# EAGLE library part ATSAMC21N18A-ANT (library graftel-internal-ic)
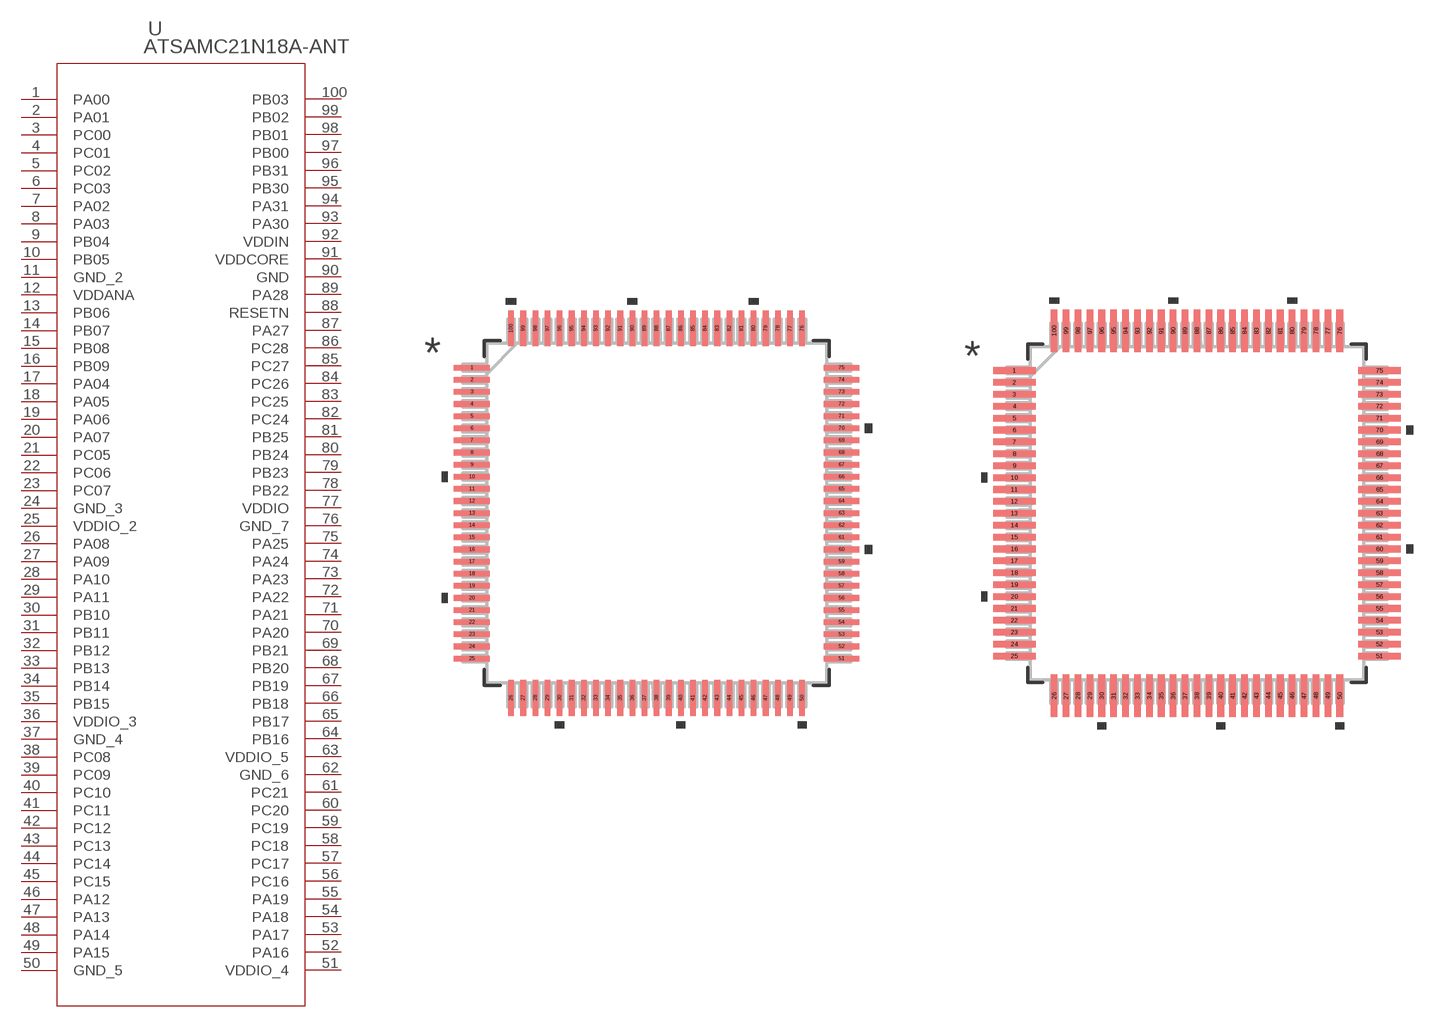
[diagram p69: symbol with the pads of TQFP100_14X14MC; footprints TQFP100_14X14MC, TQFP100_14X14MC-M]

Designator prefix U

## ATSAMC21N18A-ANT (MANUFACTURER_PART_NUMBER: ATSAMC21N18AANT; VENDOR: Microchip)  [TQFP100_14X14MC]
1  PA00
2  PA01
3  PC00
4  PC01
5  PC02
6  PC03
7  PA02
8  PA03
9  PB04
10  PB05
11  GND_2  pas
12  VDDANA  pwr
13  PB06
14  PB07
15  PB08
16  PB09
17  PA04
18  PA05
19  PA06
20  PA07
21  PC05
22  PC06
23  PC07
24  GND_3  pas
25  VDDIO_2  pwr
26  PA08
27  PA09
28  PA10
29  PA11
30  PB10
31  PB11
32  PB12
33  PB13
34  PB14
35  PB15
36  VDDIO_3  pwr
37  GND_4  pas
38  PC08
39  PC09
40  PC10
41  PC11
42  PC12
43  PC13
44  PC14
45  PC15
46  PA12
47  PA13
48  PA14
49  PA15
50  GND_5  pas
51  VDDIO_4  pwr
52  PA16
53  PA17
54  PA18
55  PA19
56  PC16
57  PC17
58  PC18
59  PC19
60  PC20
61  PC21
62  GND_6  pas
63  VDDIO_5  pwr
64  PB16
65  PB17
66  PB18
67  PB19
68  PB20
69  PB21
70  PA20
71  PA21
72  PA22
73  PA23
74  PA24
75  PA25
76  GND_7  pas
77  VDDIO  pwr
78  PB22
79  PB23
80  PB24
81  PB25
82  PC24
83  PC25
84  PC26
85  PC27
86  PC28
87  PA27
88  RESETN  pas
89  PA28
90  GND  pas
91  VDDCORE  pwr
92  VDDIN  pwr
93  PA30
94  PA31
95  PB30
96  PB31
97  PB00
98  PB01
99  PB02
100  PB03

## ATSAMC21N18A-ANTTQFP100_14X14MC-M (MANUFACTURER_PART_NUMBER: ATSAMC21N18AANT; VENDOR: Microchip)  [TQFP100_14X14MC-M]
Pads as for TQFP100_14X14MC

## ATSAMC21N18A-ANTTQFP100_14X14MC-L (MANUFACTURER_PART_NUMBER: ATSAMC21N18AANT; VENDOR: Microchip)  [TQFP100_14X14MC-L]
Pads as for TQFP100_14X14MC

## Footprint TQFP100_14X14MC (pad centres in mm)
smd 1.473 x 0.229: 1 -7.62,6; 2 -7.62,5.5; 3 -7.62,5; 4 -7.62,4.5; 5 -7.62,4; 6 -7.62,3.5; 7 -7.62,3; 8 -7.62,2.5; 9 -7.62,2; 10 -7.62,1.5; 11 -7.62,1; 12 -7.62,0.5; 13 -7.62,0; 14 -7.62,-0.5; 15 -7.62,-1; 16 -7.62,-1.5; 17 -7.62,-2; 18 -7.62,-2.5; 19 -7.62,-3; 20 -7.62,-3.5; 21 -7.62,-4; 22 -7.62,-4.5; 23 -7.62,-5; 24 -7.62,-5.5; 25 -7.62,-6; 51 7.62,-6; 52 7.62,-5.5; 53 7.62,-5; 54 7.62,-4.5; 55 7.62,-4; 56 7.62,-3.5; 57 7.62,-3; 58 7.62,-2.5; 59 7.62,-2; 60 7.62,-1.5; 61 7.62,-1; 62 7.62,-0.5; 63 7.62,0; 64 7.62,0.5; 65 7.62,1; 66 7.62,1.5; 67 7.62,2; 68 7.62,2.5; 69 7.62,3; 70 7.62,3.5; 71 7.62,4; 72 7.62,4.5; 73 7.62,5; 74 7.62,5.5; 75 7.62,6
smd 0.229 x 1.473: 26 -6,-7.62; 27 -5.5,-7.62; 28 -5,-7.62; 29 -4.5,-7.62; 30 -4,-7.62; 31 -3.5,-7.62; 32 -3,-7.62; 33 -2.5,-7.62; 34 -2,-7.62; 35 -1.5,-7.62; 36 -1,-7.62; 37 -0.5,-7.62; 38 0,-7.62; 39 0.5,-7.62; 40 1,-7.62; 41 1.5,-7.62; 42 2,-7.62; 43 2.5,-7.62; 44 3,-7.62; 45 3.5,-7.62; 46 4,-7.62; 47 4.5,-7.62; 48 5,-7.62; 49 5.5,-7.62; 50 6,-7.62; 76 6,7.62; 77 5.5,7.62; 78 5,7.62; 79 4.5,7.62; 80 4,7.62; 81 3.5,7.62; 82 3,7.62; 83 2.5,7.62; 84 2,7.62; 85 1.5,7.62; 86 1,7.62; 87 0.5,7.62; 88 0,7.62; 89 -0.5,7.62; 90 -1,7.62; 91 -1.5,7.62; 92 -2,7.62; 93 -2.5,7.62; 94 -3,7.62; 95 -3.5,7.62; 96 -4,7.62; 97 -4.5,7.62; 98 -5,7.62; 99 -5.5,7.62; 100 -6,7.62

## Footprint TQFP100_14X14MC-M (pad centres in mm)
smd 1.778 x 0.279: 1 -7.671,6; 2 -7.671,5.5; 3 -7.671,5; 4 -7.671,4.5; 5 -7.671,4; 6 -7.671,3.5; 7 -7.671,3; 8 -7.671,2.5; 9 -7.671,2; 10 -7.671,1.5; 11 -7.671,1; 12 -7.671,0.5; 13 -7.671,0; 14 -7.671,-0.5; 15 -7.671,-1; 16 -7.671,-1.5; 17 -7.671,-2; 18 -7.671,-2.5; 19 -7.671,-3; 20 -7.671,-3.5; 21 -7.671,-4; 22 -7.671,-4.5; 23 -7.671,-5; 24 -7.671,-5.5; 25 -7.671,-6; 51 7.671,-6; 52 7.671,-5.5; 53 7.671,-5; 54 7.671,-4.5; 55 7.671,-4; 56 7.671,-3.5; 57 7.671,-3; 58 7.671,-2.5; 59 7.671,-2; 60 7.671,-1.5; 61 7.671,-1; 62 7.671,-0.5; 63 7.671,0; 64 7.671,0.5; 65 7.671,1; 66 7.671,1.5; 67 7.671,2; 68 7.671,2.5; 69 7.671,3; 70 7.671,3.5; 71 7.671,4; 72 7.671,4.5; 73 7.671,5; 74 7.671,5.5; 75 7.671,6
smd 0.279 x 1.778: 26 -6,-7.671; 27 -5.5,-7.671; 28 -5,-7.671; 29 -4.5,-7.671; 30 -4,-7.671; 31 -3.5,-7.671; 32 -3,-7.671; 33 -2.5,-7.671; 34 -2,-7.671; 35 -1.5,-7.671; 36 -1,-7.671; 37 -0.5,-7.671; 38 0,-7.671; 39 0.5,-7.671; 40 1,-7.671; 41 1.5,-7.671; 42 2,-7.671; 43 2.5,-7.671; 44 3,-7.671; 45 3.5,-7.671; 46 4,-7.671; 47 4.5,-7.671; 48 5,-7.671; 49 5.5,-7.671; 50 6,-7.671; 76 6,7.671; 77 5.5,7.671; 78 5,7.671; 79 4.5,7.671; 80 4,7.671; 81 3.5,7.671; 82 3,7.671; 83 2.5,7.671; 84 2,7.671; 85 1.5,7.671; 86 1,7.671; 87 0.5,7.671; 88 0,7.671; 89 -0.5,7.671; 90 -1,7.671; 91 -1.5,7.671; 92 -2,7.671; 93 -2.5,7.671; 94 -3,7.671; 95 -3.5,7.671; 96 -4,7.671; 97 -4.5,7.671; 98 -5,7.671; 99 -5.5,7.671; 100 -6,7.671

## Footprint TQFP100_14X14MC-L (pad centres in mm)
smd 1.168 x 0.178: 1 -7.569,6; 2 -7.569,5.5; 3 -7.569,5; 4 -7.569,4.5; 5 -7.569,4; 6 -7.569,3.5; 7 -7.569,3; 8 -7.569,2.5; 9 -7.569,2; 10 -7.569,1.5; 11 -7.569,1; 12 -7.569,0.5; 13 -7.569,0; 14 -7.569,-0.5; 15 -7.569,-1; 16 -7.569,-1.5; 17 -7.569,-2; 18 -7.569,-2.5; 19 -7.569,-3; 20 -7.569,-3.5; 21 -7.569,-4; 22 -7.569,-4.5; 23 -7.569,-5; 24 -7.569,-5.5; 25 -7.569,-6; 51 7.569,-6; 52 7.569,-5.5; 53 7.569,-5; 54 7.569,-4.5; 55 7.569,-4; 56 7.569,-3.5; 57 7.569,-3; 58 7.569,-2.5; 59 7.569,-2; 60 7.569,-1.5; 61 7.569,-1; 62 7.569,-0.5; 63 7.569,0; 64 7.569,0.5; 65 7.569,1; 66 7.569,1.5; 67 7.569,2; 68 7.569,2.5; 69 7.569,3; 70 7.569,3.5; 71 7.569,4; 72 7.569,4.5; 73 7.569,5; 74 7.569,5.5; 75 7.569,6
smd 0.178 x 1.168: 26 -6,-7.569; 27 -5.5,-7.569; 28 -5,-7.569; 29 -4.5,-7.569; 30 -4,-7.569; 31 -3.5,-7.569; 32 -3,-7.569; 33 -2.5,-7.569; 34 -2,-7.569; 35 -1.5,-7.569; 36 -1,-7.569; 37 -0.5,-7.569; 38 0,-7.569; 39 0.5,-7.569; 40 1,-7.569; 41 1.5,-7.569; 42 2,-7.569; 43 2.5,-7.569; 44 3,-7.569; 45 3.5,-7.569; 46 4,-7.569; 47 4.5,-7.569; 48 5,-7.569; 49 5.5,-7.569; 50 6,-7.569; 76 6,7.569; 77 5.5,7.569; 78 5,7.569; 79 4.5,7.569; 80 4,7.569; 81 3.5,7.569; 82 3,7.569; 83 2.5,7.569; 84 2,7.569; 85 1.5,7.569; 86 1,7.569; 87 0.5,7.569; 88 0,7.569; 89 -0.5,7.569; 90 -1,7.569; 91 -1.5,7.569; 92 -2,7.569; 93 -2.5,7.569; 94 -3,7.569; 95 -3.5,7.569; 96 -4,7.569; 97 -4.5,7.569; 98 -5,7.569; 99 -5.5,7.569; 100 -6,7.569